# Altium schematic symbol library C410C200K3G5TA.SchLib: 1 symbol
Pins are listed as number, name and electrical type; pins without a type are passive.

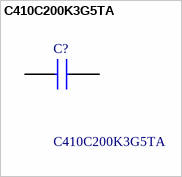
[diagram p0: symbol C410C200K3G5TA]

## C410C200K3G5TA
designator C?
AxiMax 400 Comm C0G, Ceramic, 20 pF, 10%, 25 VDC, 62.5 VDC, 125C, -55C, C0G, AxiMax, Commercial Standard, 0.1 % , 100 GOhms, 2.41mm, 4.32mm, 25.4mm, 0.51mm, 300, 120; Manufacturer_Name: KEMET; Manufacturer_Part_Number: C410C200K3G5TA; Mouser Part Number: *; Mouser Price/Stock: *; Arrow Part Number: *; Arrow Price/Stock: *; Datasheet Link: https://content.kemet.com/datasheets/KEM_C1040_AXIMAX_C0G.pdf
footprint CAPPA1396W54L432D241
pins: 1 +, 2 -